# Altium footprint library OSCILL_12MHz.PcbLib: 1 footprints
Each footprint in its own frame and in the unit in brackets; x right, y up, seen from the top. Pads: shape width x height; smd on the part's side, far side on the other; paste and mask are expansions set on the pad; w line width, h text height; cw(c..) or ccw(c..) is an arc to the next point about the centre after c.
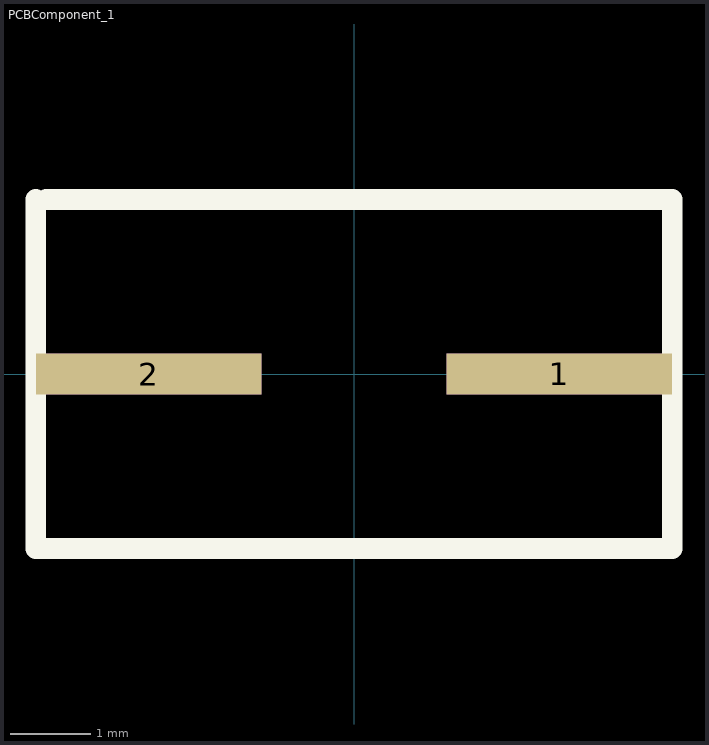
[diagram p0: the footprint, top view; thin cyan lines are the x and y axes]

## PCBComponent_1 [mil] "HC-49S_L11.4-W4.5-LS12.5"
pads (2):
  rect 110x20 smd paste+0 mask+2: 1(100,0) 2(-100,0)
Top Overlay:
  lines w10: -155,85 -155,-85 155,-85 155,85 -150,85
Mechanical 15:
  rectangle: 45,-10 155,10
  rectangle: -155,-10 -45,10
  lines w2: -155,-85 155,-85 155,85 -155,85 -155,-85
3D body "HC49XSMD.STEP": height 87.51, standoff 0.11, extent -150.08,-80.75 149.13,80.67